# Altium footprint library mechanical.PcbLib: 2 footprints
Each footprint in its own frame and in the unit in brackets; x right, y up, seen from the top. Pads: shape width x height; smd on the part's side, far side on the other; paste and mask are expansions set on the pad; w line width, h text height; cw(c..) or ccw(c..) is an arc to the next point about the centre after c.
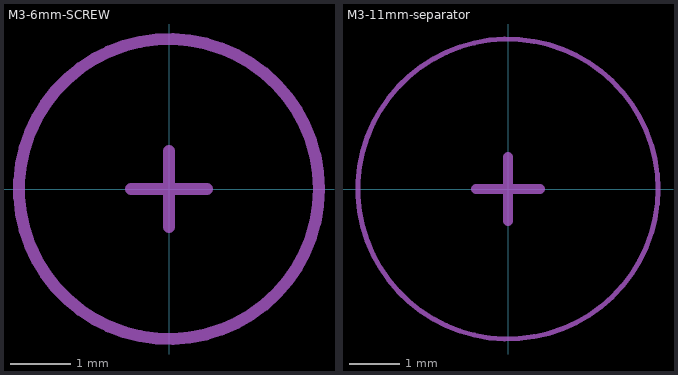
[diagram p0: the footprints below, top view; thin cyan lines are the x and y axes]

## M3-6mm-SCREW [mm]
Top Courtyard (Mech15):
  circle w0.2: c0,0 r2.5
  lines w0.2: -0.635,0 0.635,0 ; 0,-0.635 0,0.635
  text "'.Designator'" at -2.821,1.029 h0.5
3D body "M3-6mm-SCREW.STEP": height 6, standoff -2.38, extent -3,-3 3,3

## M3-11mm-separator [mm]
Top Courtyard (Mech15):
  circle w0.1: c0,0 r3
  lines w0.2: -0.635,0 0.635,0 0,0 ; 0,-0.635 0,0.635
  text "'.Designator'" at -2.821,-1.384 h0.5
3D body "M3-11mm-SEPARATOR.stp": height 10, standoff 0, extent -3.175,-2.75 3.175,2.75